# Altium schematic symbol library swarm_crawler_sch.SchLib: 34 symbols
Pins are listed as number, name and electrical type; pins without a type are passive.

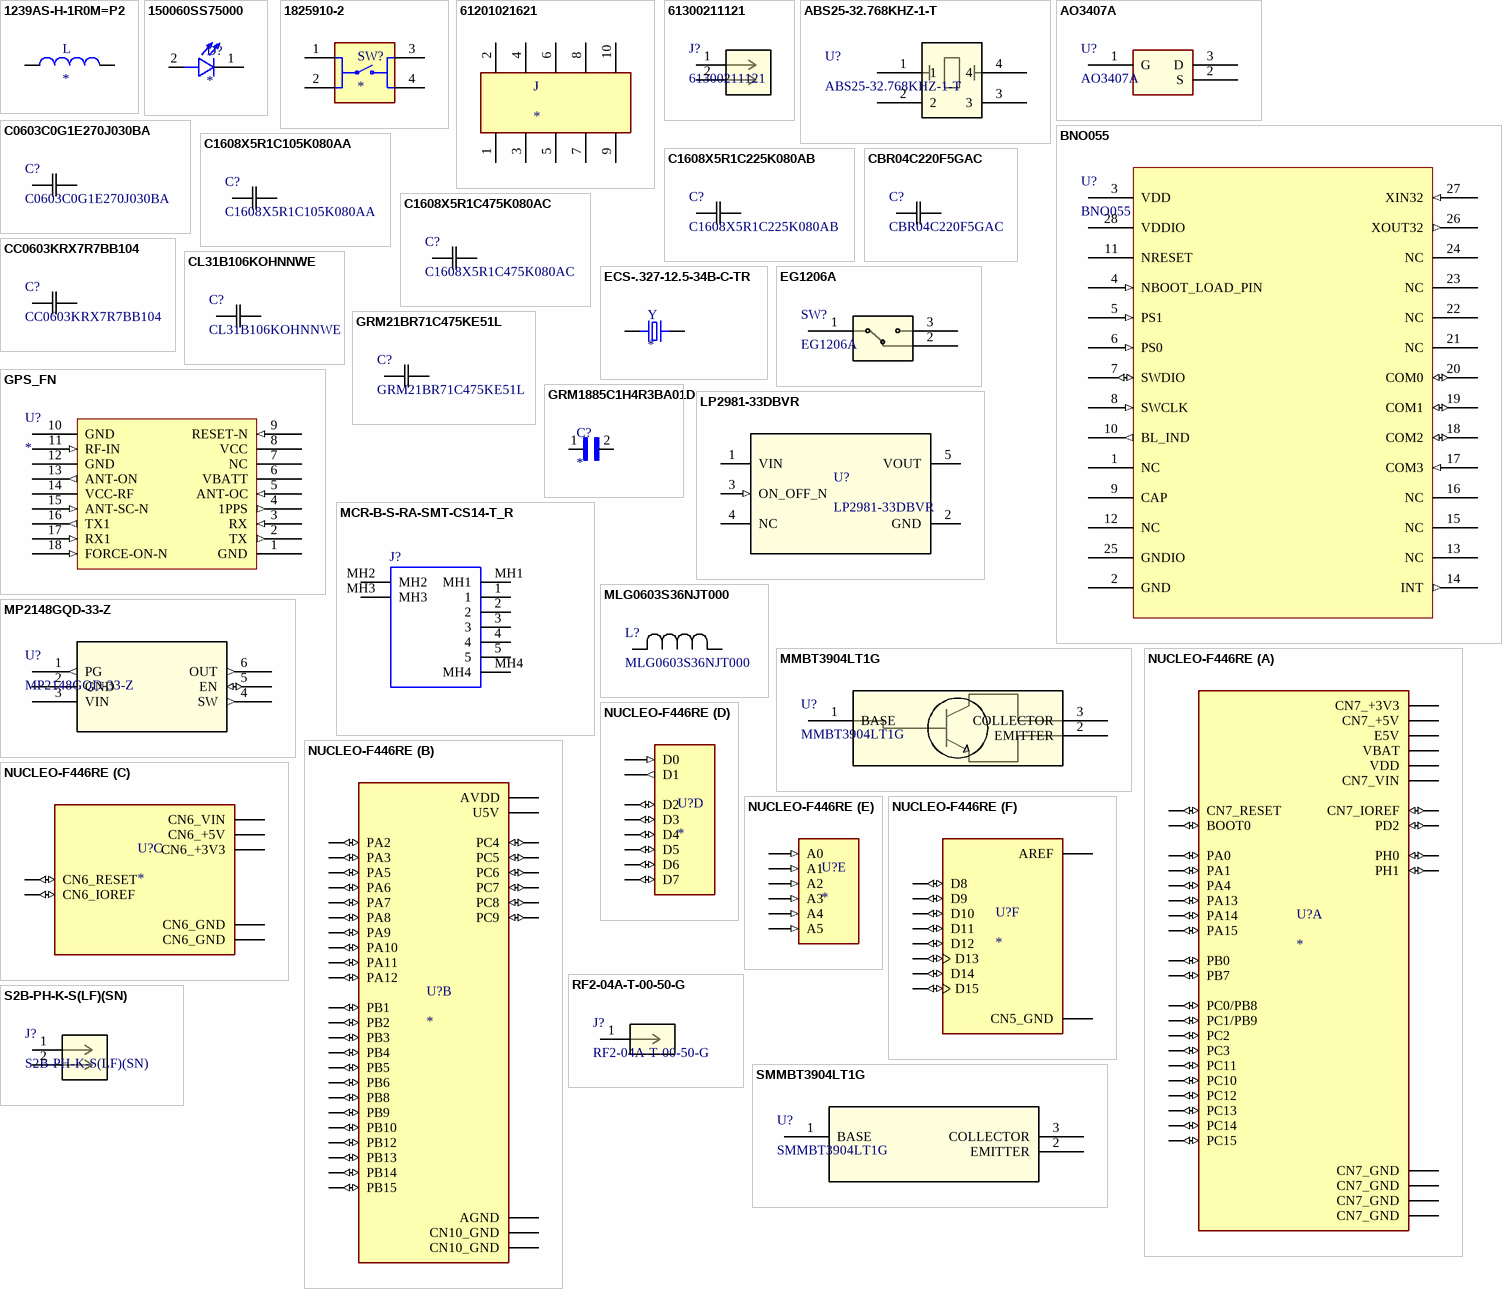
[diagram p0: symbols 1239AS-H-1R0M=P2 to SMMBT3904LT1G]

## 1239AS-H-1R0M=P2
designator L
Inductor with Inductance: 1uH Tol. +/-20%, Package: 1008 _2520_; MF: Murata Electronics; MP: 1239AS-H-1R0M=P2; SnapEDA_Link: https://www.snapeda.com/parts/1239AS-H-1R0M%3DP2/Murata%20Electronics%20North%20America/view-part/581165/?ref=snap; Digi-Key_Part_Number: 490-10564-1-ND; Value: *; Digi-Key_Purchase_URL: https://www.digikey.com.au/product-detail/en/murata-electronics/1239AS-H-1R0M=P2/490-10564-1-ND/5272022?utm_source=snapeda&utm_medium=aggregator&utm_campaign=symbol; Package: 2520 Murata
footprint CAPC10555_55N_KEM
pins: 1, 2

## 150060SS75000
designator D?
Standard LEDs - SMD WL-SMCW SMDMono TpVw Waterclr 0603 SprRed; MP: 150060SS75000; MF: WÃ¼rth Elektronik; SnapEDA_Link: https://www.snapeda.com/parts/150060SS75000/W%C3%BCrth%20Elektronik/view-part/4805427/?ref=snap; Availability: Warning; Purchase-URL: https://pricing.snapeda.com/search/part/150060SS75000/?ref=eda; Value: *; Price: None; Package: None; Check_prices: https://www.snapeda.com/parts/150060SS75000/W%C3%BCrth%20Elektronik/view-part/4805427/?ref=eda
footprint LED_150060SS75000
pins: 1 C, 2 A

## 1825910-2
designator SW?
50 mA SPST Round Actuator 160 Gram Force Tactile Pushbutton Switch; MP: 1825910-2; MF: TE Connectivity; Check_prices: https://www.snapeda.com/parts/1825910-2/TE+Connectivity+ALCOSWITCH+Switches/view-part/?ref=eda; Value: *; Availability: In Stock; Price: None; Package: None; SnapEDA_Link: https://www.snapeda.com/parts/1825910-2/TE+Connectivity+ALCOSWITCH+Switches/view-part/?ref=snap; Purchase-URL: https://pricing.snapeda.com/search/part/1825910-2/?ref=eda; EU_RoHS_Compliance: Compliant
footprint TE_1825910-2
pins: 1, 2, 3, 4

## 61201021621
designator J
Connector Header Through Hole 10 position 0.100 _2.54mm_; MP: 61201021621; MF: Wurth Electronics; Price: None; Package: None; Value: *; Availability: Unavailable; SnapEDA_Link: https://www.snapeda.com/parts/61201021621/Wurth%20Electronics%20Inc./view-part/1156232/?ref=snap
footprint 61201021621
pins: 1, 2, 3, 4, 5, 6, 7, 8, 9, 10

## 61300211121
designator J?
No Description Available; Mfr_Name: Wurth Electronics; Copyright: Copyright (C) 2023 Ultra Librarian. All rights reserved.; Manufacturer_Part_Number: 61300211121; RefDes: RefDes; Type: DEV
footprint CONN_61300211121_WRE
pins: 1, 2

## ABS25-32.768KHZ-1-T
designator U?
No Description Available; Mfr_Name: Abracon; Copyright: Copyright (C) 2023 Ultra Librarian. All rights reserved.; Manufacturer_Part_Number: ABS25-32.768KHZ-1-T; RefDes: RefDes; Type: DEV
footprint ABS25-32.768KHZ-1-T_ABR
pins: 1, 2, 3, 4

## AO3407A
designator U?
No Description Available; Mfr_Name: Alpha and Omega Semiconductor; Copyright: Copyright (C) 2023 Ultra Librarian. All rights reserved.; Manufacturer_Part_Number: AO3407A; Digi-Key_Part_Number_1: 785-1006-2-ND; Digi-Key_Part_Number_2: 785-1006-1-ND; Digi-Key_Part_Number_3: 785-1006-6-ND; Digi-Key_Part_Number_4: 785-1006-2-NDL; RefDes: RefDes; Type: DEV
footprint SOT-23-3L_AOS
pins: 1 G, 2 S, 3 D

## BNO055
designator U?
No Description Available; Mfr_Name: Bosch Sensortec; Copyright: Copyright (C) 2023 Ultra Librarian. All rights reserved.; Manufacturer_Part_Number: BNO055; Digi-Key_Part_Number_1: 828-1058-1-ND; Digi-Key_Part_Number_2: 828-1058-2-ND; Digi-Key_Part_Number_3: 828-1058-6-ND; RefDes: RefDes; Type: DEV
footprint QFN_BNO055_BOS
pins: 1 NC, 2 GND, 3 VDD (power), 4 NBOOT_LOAD_PIN (in), 5 PS1 (in), 6 PS0 (in), 7 SWDIO (io), 8 SWCLK (in), 9 CAP, 10 BL_IND (out), 11 NRESET, 12 NC, 13 NC, 14 INT (out), 15 NC, 16 NC, 17 COM3 (in), 18 COM2 (io), 19 COM1 (io), 20 COM0 (io), 21 NC, 22 NC, 23 NC, 24 NC, 25 GNDIO, 26 XOUT32 (out), 27 XIN32 (in), 28 VDDIO (power)

## C0603C0G1E270J030BA
designator C?
No Description Available; Mfr_Name: TDK; Type: DEV; Copyright: Copyright (C) 2023 Ultra Librarian. All rights reserved.; Manufacturer_Part_Number: C0603C0G1E270J030BA; Digi-Key_Part_Number_1: 445-4661-1-ND; Digi-Key_Part_Number_2: 445-4661-2-ND; Digi-Key_Part_Number_3: 445-4661-6-ND; RefDes: RefDes
footprint CAP_0603_TDK
pins: 1, 2

## C1608X5R1C105K080AA
designator C?
No Description Available; Mfr_Name: TDK; Type: DEV; Copyright: Copyright (C) 2023 Ultra Librarian. All rights reserved.; Manufacturer_Part_Number: C1608X5R1C105K080AA; Digi-Key_Part_Number_1: 445-1416-1-ND; Digi-Key_Part_Number_2: 445-1416-2-ND; Digi-Key_Part_Number_3: 445-1416-6-ND; RefDes: RefDes
footprint CAP_1608_TDK
pins: 1, 2

## C1608X5R1C225K080AB
designator C?
No Description Available; Mfr_Name: TDK; Type: DEV; Copyright: Copyright (C) 2023 Ultra Librarian. All rights reserved.; Manufacturer_Part_Number: C1608X5R1C225K080AB; Digi-Key_Part_Number_1: 445-5157-1-ND; Digi-Key_Part_Number_2: 445-5157-2-ND; Digi-Key_Part_Number_3: 445-5157-6-ND; RefDes: RefDes
footprint CAP_1608_TDK
pins: 1, 2

## C1608X5R1C475K080AC
designator C?
No Description Available; Mfr_Name: TDK; Type: DEV; Copyright: Copyright (C) 2023 Ultra Librarian. All rights reserved.; Manufacturer_Part_Number: C1608X5R1C475K080AC; Digi-Key_Part_Number_1: 445-7478-1-ND; Digi-Key_Part_Number_2: 445-7478-2-ND; Digi-Key_Part_Number_3: 445-7478-6-ND; RefDes: RefDes
footprint CAP_1608_TDK
pins: 1, 2

## CBR04C220F5GAC
designator C?
No Description Available; Mfr_Name: Kemet; Type: DEV; Copyright: Copyright (C) 2023 Ultra Librarian. All rights reserved.; Manufacturer_Part_Number: CBR04C220F5GAC; Digi-Key_Part_Number_1: 399-8827-1-ND; Digi-Key_Part_Number_2: 399-8827-2-ND; Digi-Key_Part_Number_3: 399-8827-6-ND; RefDes: RefDes
footprint CAPC10555_55N_KEM
pins: 1, 2

## CC0603KRX7R7BB104
designator C?
No Description Available; Mfr_Name: Yageo; Type: DEV; Copyright: Copyright (C) 2023 Ultra Librarian. All rights reserved.; Manufacturer_Part_Number: CC0603KRX7R7BB104; Digi-Key_Part_Number_1: 311-1088-1-ND; Digi-Key_Part_Number_2: 311-1088-2-ND; Digi-Key_Part_Number_3: 311-1088-2-NDL; Digi-Key_Part_Number_4: 311-1088-6-ND; RefDes: RefDes
footprint CC0603N_YAG
pins: 1, 2

## CL31B106KOHNNWE
designator C?
No Description Available; Mfr_Name: Samsung; Type: DEV; Copyright: Copyright (C) 2023 Ultra Librarian. All rights reserved.; Manufacturer_Part_Number: CL31B106KOHNNWE; Digi-Key_Part_Number_1: 1276-3105-2-ND; Digi-Key_Part_Number_2: 1276-3105-1-ND; Digi-Key_Part_Number_3: 1276-3105-6-ND; RefDes: RefDes
footprint CAP_CL31_SAM
pins: 1, 2

## ECS-.327-12.5-34B-C-TR
designator Y
32.768kHz Â±10ppm Crystal 12.5pF 70 kOhms 2-SMD, No Lead; MP: ECS-.327-12.5-34B-C-TR; MF: ECS Inc.; Digi-Key_Part_Number: XC1968CT-ND; Package: SMD-2 ECS International; DigiKey-Purchase-URL: https://snapeda.com/shop?store=DigiKey&id=55051; SnapEDA_Link: https://www.snapeda.com/parts/ECS-.327-12.5-34B-C-TR/ECS%20Inc./view-part/55051/?ref=snap; Value: *
footprint XTAL_ECS-.327-12.5-34B-C-TR
pins: 1, 2

## EG1206A
designator SW?
No Description Available; Mfr_Name: E-Switch; Copyright: Copyright (C) 2023 Ultra Librarian. All rights reserved.; Manufacturer_Part_Number: EG1206A; RefDes: RefDes; Type: DEV
footprint EG1206A_EWI
pins: 1, 2, 3

## GPS_FN
designator U?
footprint SL871
pins: 1 GND (power) "Ground", 2 TX (out) "TX0", 3 RX (in) "RX0", 4 1PPS (out) "time mark pulse", 5 ANT-OC (in) "antennta open(high true)", 6 VBATT (power) "backup supply voltage", 7 NC, 8 VCC (power) "supply voltage", 9 RESET-N (in) "active low, open drain, can be left unconnected", 10 GND (power) "ground", 11 RF-IN (in), 12 GND (power) "grounf", 13 ANT-ON (out) "antenna on", 14 VCC-RF (power), 15 ANT-SC-N (in) "antenna shorted, low true", 16 TX1 (out) "TX1/ SDA", 17 RX1 (in) "RX!/ SCL", 18 FORCE-ON-N (in) "FORCE ON"

## GRM21BR71C475KE51L
designator C?
No Description Available; Mfr_Name: Murata; Type: DEV; Copyright: Copyright (C) 2023 Ultra Librarian. All rights reserved.; Manufacturer_Part_Number: GRM21BR71C475KE51L; Digi-Key_Part_Number_1: 490-14466-2-ND; Digi-Key_Part_Number_2: 490-14466-1-ND; Digi-Key_Part_Number_3: 490-14466-6-ND; RefDes: RefDes
footprint CAP_GRM0805_2X1P25_MUR
pins: 1, 2

## GRM1885C1H4R3BA01D
designator C?
SMD Capacitor C0G(EIA) with Capacitance: 4.3pF Tol. 0.1pF. Rated Voltage: 50Vdc; MP: GRM1885C1H4R3BA01D; MF: Murata; Value: *; Package: 1608 Murata; Price: None; Check_prices: https://www.snapeda.com/parts/GRM1885C1H4R3BA01D/Murata%20Electronics%20North%20America/view-part/1775789/?ref=eda; SnapEDA_Link: https://www.snapeda.com/parts/GRM1885C1H4R3BA01D/Murata%20Electronics%20North%20America/view-part/1775789/?ref=snap; Availability: Unavailable
footprint CAPC1608X90N
pins: 1, 2

## LP2981-33DBVR
designator U?
No Description Available; Mfr_Name: Texas Instruments; Type: DEV; RefDes: RefDes; Copyright: Copyright (C) 2023 Ultra Librarian. All rights reserved.; Manufacturer_Part_Number: LP2981-33DBVR; Digi-Key_Part_Number_1: 296-17360-1-ND; Digi-Key_Part_Number_2: 296-17360-2-ND; Digi-Key_Part_Number_3: 296-17360-6-ND; Digi-Key_Part_Number_4: 2156-LP2981-33DBVR-ND
footprint DBV0005A_N
pins: 1 VIN (power), 2 GND (power), 3 ON_OFF_N (in), 4 NC, 5 VOUT (power)

## MCR-B-S-RA-SMT-CS14-T_R
designator J?
USB - micro B Receptacle Connector 5 Position Surface Mount, Right Angle; Manufacturer_Name: Adam Tech; Manufacturer_Part_Number: MCR-B-S-RA-SMT-CS14-T/R; Geometry.Height: 3.1mm; Mouser Part Number: *; Mouser Price/Stock: *; Arrow Part Number: MCR-B-S-RA-SMT-CS14-T/R; Arrow Price/Stock: https://www.arrow.com/en/products/mcr-b-s-ra-smt-cs14-tr/adam-tech?region=nac; Mouser Testing Part Number: *; Mouser Testing Price/Stock: *; Datasheet Link: https://app.adam-tech.com/products/download/data_sheet/195344/mcr-b-s-ra-smt-cs14-t-r-data-sheet.pdf
footprint MCRBSRASMTCS14TR
pins: 1, 2, 3, 4, 5, MH1, MH2, MH3, MH4

## MLG0603S36NJT000
designator L?
No Description Available; Mfr_Name: TDK; Type: DEV; Copyright: Copyright (C) 2023 Ultra Librarian. All rights reserved.; Manufacturer_Part_Number: MLG0603S36NJT000; Digi-Key_Part_Number_1: 445-6298-1-ND; Digi-Key_Part_Number_2: 445-6298-2-ND; Digi-Key_Part_Number_3: 445-6298-6-ND; RefDes: RefDes
footprint IND_0603_TDK
pins: 1, 2

## MMBT3904LT1G
designator U?
No Description Available; Mfr_Name: onsemi; Copyright: Copyright (C) 2023 Ultra Librarian. All rights reserved.; Manufacturer_Part_Number: MMBT3904LT1G; Digi-Key_Part_Number_1: 2156-MMBT3904LT1G-OS-ND; Digi-Key_Part_Number_2: =MMBT3904LT1G; Digi-Key_Part_Number_3: MMBT3904LT1GOSCT-ND; Digi-Key_Part_Number_4: MMBT3904LT1GOSDKR-ND; Digi-Key_Part_Number_5: MMBT3904LT1GOSTR-ND; RefDes: RefDes; Type: DEV
footprint SOT-23_3L_ONS
pins: 1 BASE, 2 EMITTER, 3 COLLECTOR

## MP2148GQD-33-Z
designator U?
No Description Available; Mfr_Name: Monolithic Power Systems; Copyright: Copyright (C) 2023 Ultra Librarian. All rights reserved.; Manufacturer_Part_Number: MP2148GQD-33-Z; Digi-Key_Part_Number_1: MP2148GQD-33-Z-ND; RefDes: RefDes; Type: DEV
footprint QFN-1p0x1p5_MNP
pins: 1 PG (out), 2 GND, 3 VIN (power), 4 SW (out), 5 EN (io), 6 OUT (out)

## NUCLEO-F446RE
designator U?
STM32 Nucleo-64 development board with STM32F446RET6 MCU, supports Arduino and ST morpho connectivity; MP: NUCLEO-F446RE; Price: None; Availability: Unavailable; Value: *; Package: None
footprint MODULE_NUCLEO-F446RE
part A pins: CN7_1 PC10 (io), CN7_2 PC11 (io), CN7_3 PC12 (io), CN7_4 PD2 (io), CN7_5 VDD (power), CN7_6 E5V (power), CN7_7 BOOT0 (io), CN7_8 CN7_GND (power), CN7_12 CN7_IOREF (io), CN7_13 PA13 (io), CN7_14 CN7_RESET (io), CN7_15 PA14 (io), CN7_16 CN7_+3V3 (power), CN7_17 PA15 (io), CN7_18 CN7_+5V (power), CN7_19 CN7_GND (power), CN7_20 CN7_GND (power), CN7_21 PB7 (io), CN7_22 CN7_GND (power), CN7_23 PC13 (io), CN7_24 CN7_VIN (power), CN7_25 PC14 (io), CN7_27 PC15 (io), CN7_28 PA0 (io), CN7_29 PH0 (io), CN7_30 PA1 (io), CN7_31 PH1 (io), CN7_32 PA4 (io), CN7_33 VBAT (power), CN7_34 PB0 (io), CN7_35 PC2 (io), CN7_36 PC1/PB9 (io), CN7_37 PC3 (io), CN7_38 PC0/PB8 (io)
part B pins: CN10_1 PC9 (io), CN10_2 PC8 (io), CN10_3 PB8 (io), CN10_4 PC6 (io), CN10_5 PB9 (io), CN10_6 PC5 (io), CN10_7 AVDD (power), CN10_8 U5V (power), CN10_9 CN10_GND (power), CN10_11 PA5 (io), CN10_12 PA12 (io), CN10_13 PA6 (io), CN10_14 PA11 (io), CN10_15 PA7 (io), CN10_16 PB12 (io), CN10_17 PB6 (io), CN10_19 PC7 (io), CN10_20 CN10_GND (power), CN10_21 PA9 (io), CN10_22 PB2 (io), CN10_23 PA8 (io), CN10_24 PB1 (io), CN10_25 PB10 (io), CN10_26 PB15 (io), CN10_27 PB4 (io), CN10_28 PB14 (io), CN10_29 PB5 (io), CN10_30 PB13 (io), CN10_31 PB3 (io), CN10_32 AGND (power), CN10_33 PA10 (io), CN10_34 PC4 (io), CN10_35 PA2 (io), CN10_37 PA3 (io)
part C pins: CN6_2 CN6_IOREF (io), CN6_3 CN6_RESET (io), CN6_4 CN6_+3V3 (power), CN6_5 CN6_+5V (power), CN6_6 CN6_GND (power), CN6_7 CN6_GND (power), CN6_8 CN6_VIN (power)
part D pins: CN9_1 D0 (in), CN9_2 D1 (out), CN9_3 D2 (io), CN9_4 D3 (io), CN9_5 D4 (io), CN9_6 D5 (io), CN9_7 D6 (io), CN9_8 D7 (io)
part E pins: CN8_1 A0 (in), CN8_2 A1 (in), CN8_3 A2 (in), CN8_4 A3 (in), CN8_5 A4 (in), CN8_6 A5 (in)
part F pins: CN5_1 D8 (io), CN5_2 D9 (io), CN5_3 D10 (io), CN5_4 D11 (io), CN5_5 D12 (io), CN5_6 D13 (io), CN5_7 CN5_GND (power), CN5_8 AREF (power), CN5_9 D14 (io), CN5_10 D15 (io)

## RF2-04A-T-00-50-G
designator J?
No Description Available; Mfr_Name: ADAM TECHNOLOGIES INC; Copyright: Copyright (C) 2023 Ultra Librarian. All rights reserved.; Manufacturer_Part_Number: RF2-04A-T-00-50-G; Digi-Key_Part_Number_1: 2057-RF2-04A-T-00-50-G-ND; RefDes: RefDes; Type: DEV
footprint CONN_RF2-04A-T-00-50-G_ADM
pins: 1

## S2B-PH-K-S(LF)(SN)
designator J?
No Description Available; Mfr_Name: JST; Copyright: Copyright (C) 2023 Ultra Librarian. All rights reserved.; Manufacturer_Part_Number: S2B-PH-K-S(LF)(SN); Digi-Key_Part_Number_1: 455-1719-ND; Digi-Key_Part_Number_2: 455-1719-NDL; RefDes: RefDes; Type: DEV
footprint CONN_S2B-PH-K-S_JST
pins: 1, 2

## SMMBT3904LT1G
designator U?
No Description Available; Mfr_Name: onsemi; Copyright: Copyright (C) 2023 Ultra Librarian. All rights reserved.; Manufacturer_Part_Number: SMMBT3904LT1G; Digi-Key_Part_Number_1: SMMBT3904LT1GOSTR-ND; Digi-Key_Part_Number_2: SMMBT3904LT1GOSCT-ND; Digi-Key_Part_Number_3: SMMBT3904LT1GOSDKR-ND; RefDes: RefDes; Type: DEV
footprint SOT-23-3_1P4X3P040_ONS
pins: 1 BASE, 2 EMITTER, 3 COLLECTOR

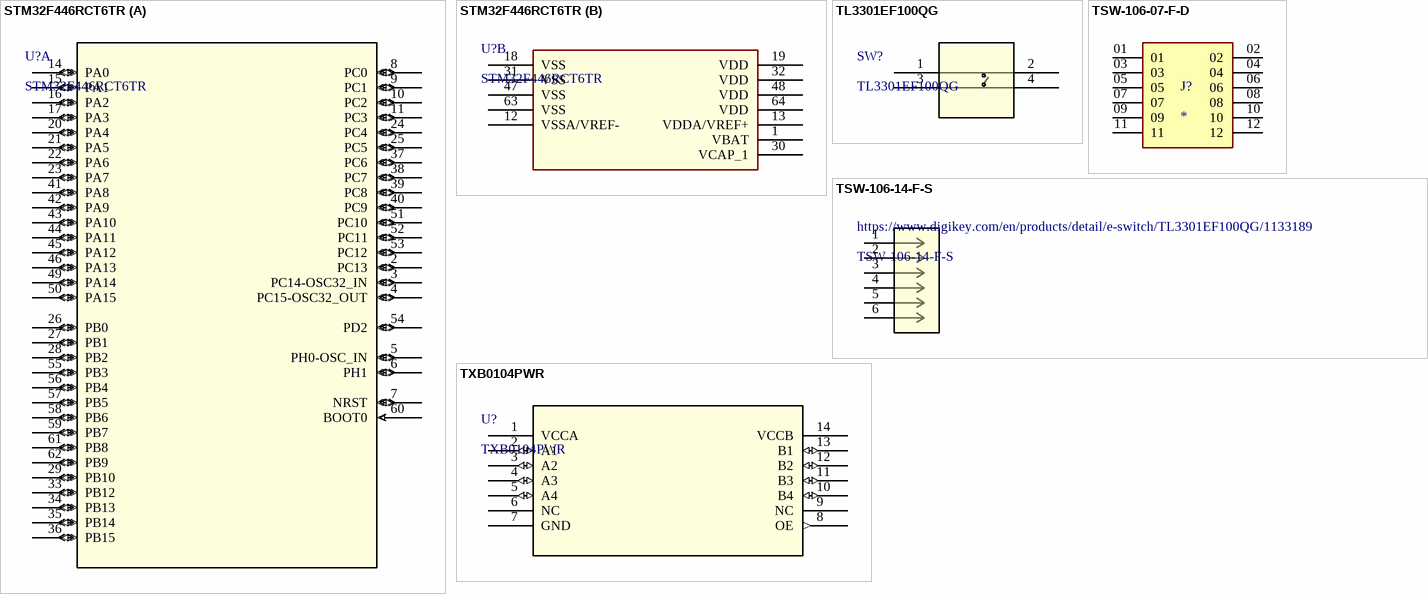
[diagram p1: symbols STM32F446RCT6TR to TXB0104PWR]

## STM32F446RCT6TR
designator U?
No Description Available; Mfr_Name: STMicroelectronics; Copyright: Copyright (C) 2023 Ultra Librarian. All rights reserved.; Manufacturer_Part_Number: STM32F446RCT6TR; Digi-Key_Part_Number_1: 497-19357-2-ND; Digi-Key_Part_Number_2: 497-19357-1-ND; Digi-Key_Part_Number_3: 497-19357-6-ND; RefDes: RefDes; Type: DEV
footprint LQFP64-10x10mm
footprint LQFP64-10x10mm
part A pins: 2 PC13 (io), 3 PC14-OSC32_IN (io), 4 PC15-OSC32_OUT (io), 5 PH0-OSC_IN (io), 6 PH1 (io), 7 NRST (io), 8 PC0 (io), 9 PC1 (io), 10 PC2 (io), 11 PC3 (io), 14 PA0 (io), 15 PA1 (io), 16 PA2 (io), 17 PA3 (io), 20 PA4 (io), 21 PA5 (io), 22 PA6 (io), 23 PA7 (io), 24 PC4 (io), 25 PC5 (io), 26 PB0 (io), 27 PB1 (io), 28 PB2 (io), 29 PB10 (io), 33 PB12 (io), 34 PB13 (io), 35 PB14 (io), 36 PB15 (io), 37 PC6 (io), 38 PC7 (io), 39 PC8 (io), 40 PC9 (io), 41 PA8 (io), 42 PA9 (io), 43 PA10 (io), 44 PA11 (io), 45 PA12 (io), 46 PA13 (io), 49 PA14 (io), 50 PA15 (io), 51 PC10 (io), 52 PC11 (io), 53 PC12 (io), 54 PD2 (io), 55 PB3 (io), 56 PB4 (io), 57 PB5 (io), 58 PB6 (io), 59 PB7 (io), 60 BOOT0 (in), 61 PB8 (io), 62 PB9 (io)
part B pins: 1 VBAT (power), 12 VSSA/VREF- (power), 13 VDDA/VREF+ (power), 18 VSS (power), 19 VDD (power), 30 VCAP_1 (power), 31 VSS (power), 32 VDD (power), 47 VSS (power), 48 VDD (power), 63 VSS (power), 64 VDD (power)

## TL3301EF100QG
designator SW?
No Description Available; Mfr_Name: E-Switch; Copyright: Copyright (C) 2023 Ultra Librarian. All rights reserved.; Manufacturer_Part_Number: TL3301EF100QG; RefDes: RefDes; Type: DEV
footprint TL3301EF100QG_EWI
pins: 1, 2, 3, 4

## TSW-106-07-F-D
designator J?
MP: TSW-106-07-F-D; MF: Samtec; Price: None; Package: None; Value: *; Availability: Unavailable
footprint SAMTEC_TSW-106-07-F-D
pins: 01, 02, 03, 04, 05, 06, 07, 08, 09, 10, 11, 12

## TSW-106-14-F-S
designator https://www.digikey.com/en/products/detail/e-switch/TL3301EF100QG/1133189
No Description Available; Mfr_Name: Samtec Inc; Copyright: Copyright (C) 2023 Ultra Librarian. All rights reserved.; Manufacturer_Part_Number: TSW-106-14-F-S; Digi-Key_Part_Number_1: SAM15379-ND; Digi-Key_Part_Number_2: TSW-106-14-F-S-ND; RefDes: RefDes; Type: DEV
footprint CON6_1X6_TU_TSW
pins: 1, 2, 3, 4, 5, 6

## TXB0104PWR
designator U?
No Description Available; Mfr_Name: Texas Instruments; Copyright: Copyright (C) 2023 Ultra Librarian. All rights reserved.; Manufacturer_Part_Number: TXB0104PWR; Digi-Key_Part_Number_1: 296-21929-1-ND; Digi-Key_Part_Number_2: 296-21929-2-ND; Digi-Key_Part_Number_3: 296-21929-6-ND; RefDes: RefDes; Type: DEV
footprint PW14
pins: 1 VCCA (power), 2 A1 (io), 3 A2 (io), 4 A3 (io), 5 A4 (io), 6 NC, 7 GND (power), 8 OE (out), 9 NC, 10 B4 (io), 11 B3 (io), 12 B2 (io), 13 B1 (io), 14 VCCB (power)